# Altium footprint library Chip_kz85.PcbLib: 312 footprints (part 14 of 20)
Each footprint in its own frame and in the unit in brackets; x right, y up, seen from the top. Pads: shape width x height; smd on the part's side, far side on the other; paste and mask are expansions set on the pad; w line width, h text height; cw(c..) or ccw(c..) is an arc to the next point about the centre after c.
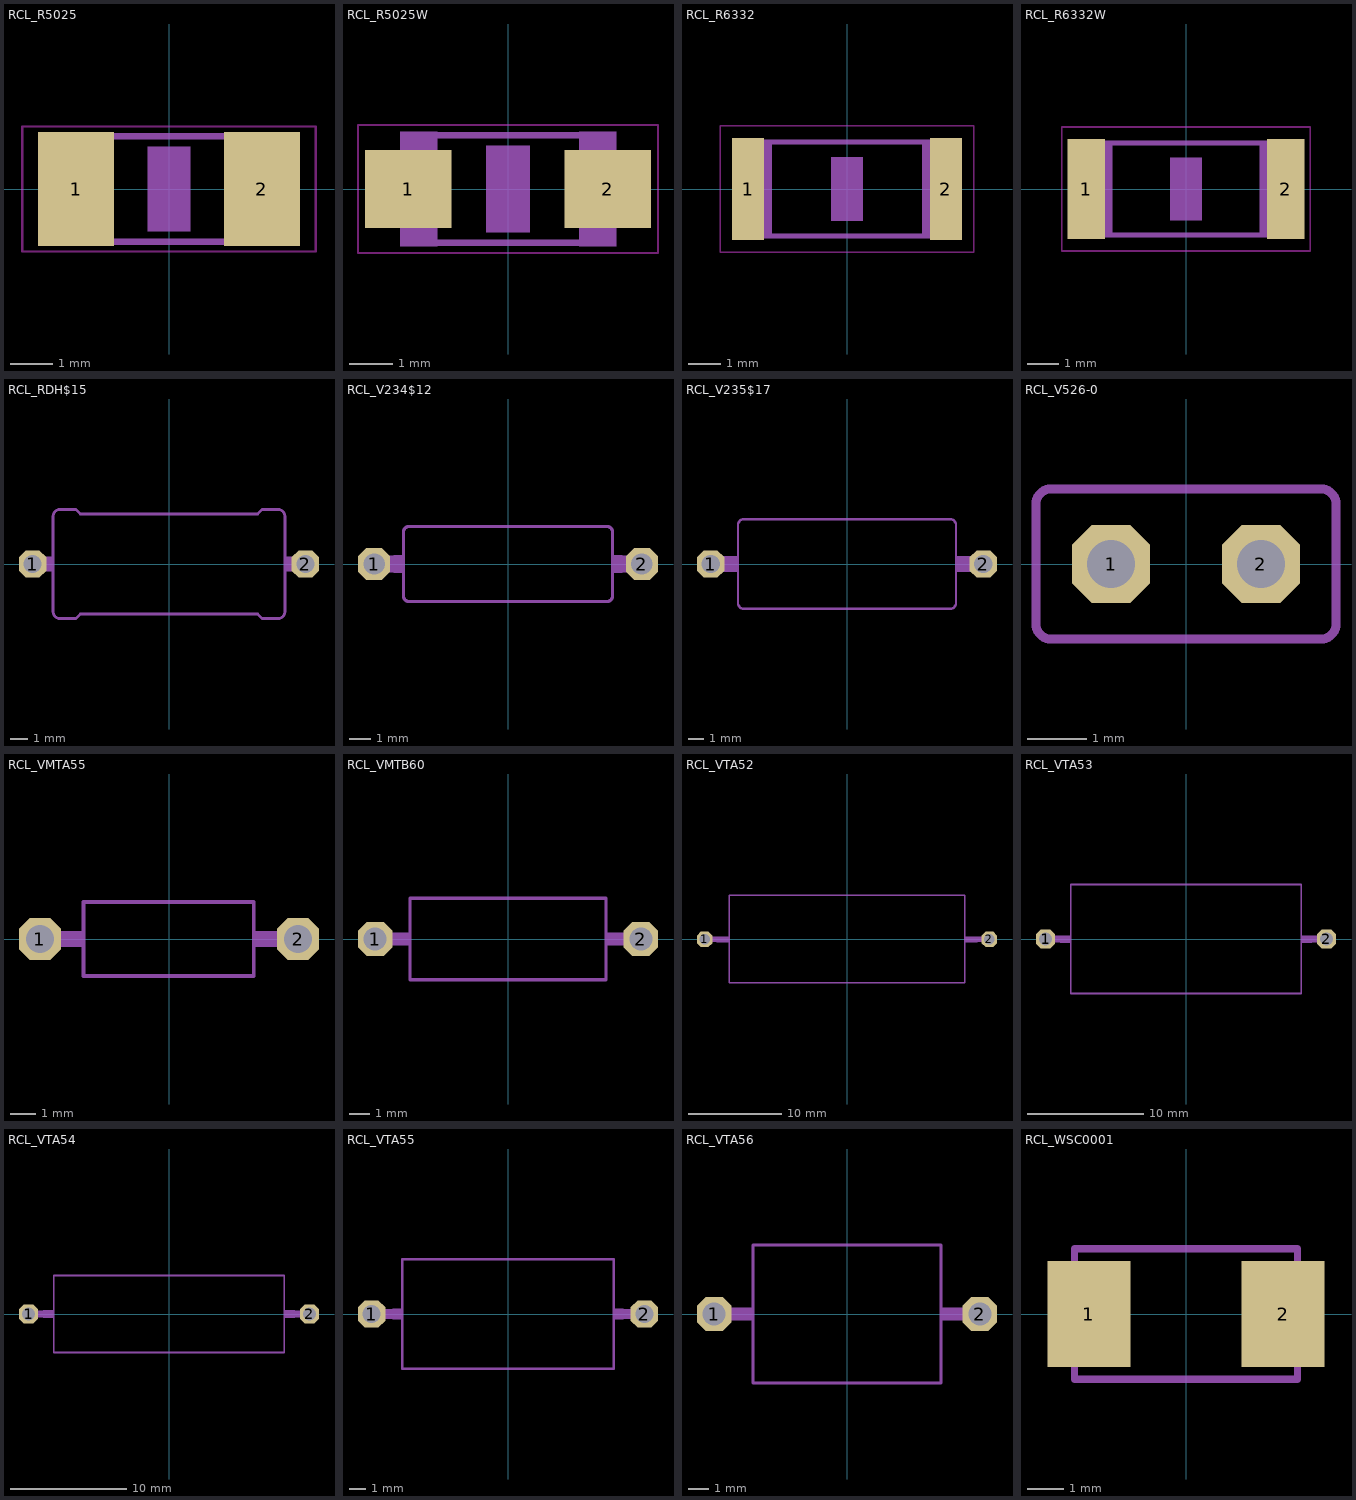
[diagram p13: the footprints below, top view; thin cyan lines are the x and y axes]

## RCL_R5025 [mil]
pads (2):
  rect 70.87x106.3 smd: 1(-86.61,0) 2(86.61,0)
Top Layer keep-out:
  lines w2: -136.73,-58.39 136.73,-58.39 136.73,58.39 -136.73,58.39 -136.73,-58.39
Mechanical 3:
  region: -98,-52 -98,52.33 -64.54,52.33 -64.54,-52
  region: 65,-52 65,52.33 98.46,52.33 98.46,-52
  lines w6: -65.43,49.02 65.43,49.02 ; -64.45,-49.02 66.42,-49.02
Mechanical 11:
  region: -19.69,-39.37 -19.69,39.37 19.69,39.37 19.69,-39.37

## RCL_R5025W [mm]
pads (2):
  rect 2x1.8 smd: 1(-2.311,0) 2(2.311,0)
Top Layer keep-out:
  lines w0.051: -3.473,-1.483 3.473,-1.483 3.473,1.483 -3.473,1.483 -3.473,-1.483
Mechanical 3:
  region: -2.489,-1.321 -2.489,1.329 -1.639,1.329 -1.639,-1.321
  region: 1.651,-1.321 1.651,1.329 2.501,1.329 2.501,-1.321
  lines w0.152: -1.662,1.245 1.662,1.245 ; -1.637,-1.245 1.687,-1.245
Mechanical 11:
  region: -0.5,-1 -0.5,1 0.5,1 0.5,-1

## RCL_R6332 [mm]
pads (2):
  rect 1x3.2 smd: 1(-3.1,0) 2(3.1,0)
Top Layer keep-out:
  lines w0.051: -3.973,-1.983 3.973,-1.983 3.973,1.983 -3.973,1.983 -3.973,-1.983
Mechanical 3:
  region: -3.2,-1.549 -3.2,1.551 -2.351,1.551 -2.351,-1.549
  region: 2.362,-1.549 2.362,1.551 3.212,1.551 3.212,-1.549
  lines w0.152: -2.362,-1.473 2.387,-1.473 ; -2.362,1.473 2.387,1.473
Mechanical 11:
  region: -0.5,-1 -0.5,1 0.5,1 0.5,-1

## RCL_R6332W [mil]
pads (2):
  rect 47.24x125.98 smd: 1(-125.83,0) 2(125.83,0)
Top Layer keep-out:
  lines w2: -156.42,-78.07 156.42,-78.07 156.42,78.07 -156.42,78.07 -156.42,-78.07
Mechanical 3:
  region: -126,-61 -126,61.05 -92.54,61.05 -92.54,-61
  region: 93,-61 93,61.05 126.46,61.05 126.46,-61
  lines w6: -92.99,-57.99 93.98,-57.99 ; -92.99,57.99 93.98,57.99
Mechanical 11:
  region: -19.69,-39.37 -19.69,39.37 19.69,39.37 19.69,-39.37

## RCL_RDH$15 [mil]
pads (2):
  oct 60x60 / inner round 55.43 / far side oct 60x60 hole 40: 1(-300,0) 2(300,0)
Mechanical 3:
  region: -266,-16 -266,16 -254,16 -254,-16
  region: 254,-16 254,16 266,16 266,-16
  lines w6: -255,-40 -255,40 ; 255,-40 255,40
  lines w32: -300,0 -270,0 ; 270,0 300,0
  text "RDH" at 180,-68 h77.5
Mechanical 7:
  lines w6: -255,-40 -255,-105 ccw(c-240,-105) -240,-120 -205,-120 -195,-110 195,-110 205,-120 240,-120 ccw(c240,-105) 255,-105 255,-40 ; -255,40 -255,105 cw(c-240,105) -240,120 -205,120 -195,110 195,110 205,120 240,120 cw(c240,105) 255,105 255,40

## RCL_V234$12 [mil]
pads (2):
  oct 60x60 / inner round 55.43 / far side oct 60x60 hole 40: 1(-250,0) 2(250,0)
Mechanical 3:
  lines w32: -250,0 -215,0 ; 215,0 250,0
Mechanical 7:
  region: 195,-16 195,16 213,16 213,-16
  region: -213,-16 -213,16 -195,16 -195,-16
  lines w6: -195,-60 ccw(c-185,-60) -185,-70 185,-70 ccw(c185,-60) 195,-60 195,60 ccw(c185,60) 185,70 -185,70 ccw(c-185,60) -195,60 -195,-60

## RCL_V235$17 [mil]
pads (2):
  oct 70.5x70.5 / inner round 65.13 / far side oct 70.5x70.5 hole 47: 1(-350,0) 2(350,0)
Mechanical 3:
  lines w40: -350,0 -310,0 ; 310,0 350,0
Mechanical 7:
  region: 280,-20 280,20 305,20 305,-20
  region: -305,-20 -305,20 -280,20 -280,-20
  lines w6: -280,-100 ccw(c-265,-100) -265,-115 265,-115 ccw(c265,-100) 280,-100 280,100 ccw(c265,100) 265,115 -265,115 ccw(c-265,100) -280,100 -280,-100

## RCL_V526-0 [mil]
pads (2):
  oct 52x52 / inner round 48.04 / far side oct 52x52 hole 32: 1(-50,0) 2(50,0)
Mechanical 7:
  lines w6: -100,-40 ccw(c-90,-40) -90,-50 90,-50 ccw(c90,-40) 100,-40 100,40 ccw(c90,40) 90,50 -90,50 ccw(c-90,40) -100,40 -100,-40

## RCL_VMTA55 [mil]
pads (2):
  oct 64.97x64.97 / inner round 60.02 / far side oct 64.97x64.97 hole 43.31: 1(-200,0) 2(200,0)
Mechanical 3:
  lines w24: -200,0 -167.72,0 ; 166.73,0 200,0
Mechanical 7:
  region: -167.72,-12 -167.72,12 -130.22,12 -130.22,-12
  region: 129.23,-12 129.23,12 166.73,12 166.73,-12
  lines w6: -132.38,-57.09 -132.38,57.09 131.4,57.09 131.4,-57.09 -132.38,-57.09

## RCL_VMTB60 [mil]
pads (2):
  oct 64.97x64.97 / inner round 60.02 / far side oct 64.97x64.97 hole 43.31: 1(-250,0) 2(250,0)
Mechanical 3:
  lines w24: -250,0 -219.88,0 ; 219.88,0 250,0
Mechanical 7:
  region: -219.88,-12 -219.88,12 -182.38,12 -182.38,-12
  region: 182.38,-12 182.38,12 219.88,12 219.88,-12
  lines w6: -184.55,-76.77 -184.55,76.77 184.55,76.77 184.55,-76.77 -184.55,-76.77

## RCL_VTA52 [mil]
pads (2):
  oct 64.97x64.97 / inner round 60.02 / far side oct 64.97x64.97 hole 43.31: 1(-600,0) 2(600,0)
Mechanical 3:
  lines w24: -600,0 -550,0 ; 550,0 600,0
Mechanical 7:
  region: -550,-12 -550,12 -494.78,12 -494.78,-12
  region: 494.78,-12 494.78,12 550,12 550,-12
  lines w6: -496.95,-183.07 -496.95,186.02 496.95,186.02 496.95,-183.07 -496.95,-183.07

## RCL_VTA53 [mil]
pads (2):
  oct 64.97x64.97 / inner round 60.02 / far side oct 64.97x64.97 hole 43.31: 1(-475,0) 2(475,0)
Mechanical 3:
  lines w24: -475,0 -425,0 ; 425,0 475,0
Mechanical 7:
  region: -425,-12 -425,12 -387.5,12 -387.5,-12
  region: 387.5,-12 387.5,12 425,12 425,-12
  lines w6: -389.67,-184.06 -389.67,185.04 389.67,185.04 389.67,-184.06 -389.67,-184.06

## RCL_VTA54 [mil]
pads (2):
  oct 64.97x64.97 / inner round 60.02 / far side oct 64.97x64.97 hole 43.31: 1(-475,0) 2(475,0)
Mechanical 3:
  lines w24: -475,0 -425,0 ; 425,0 475,0
Mechanical 7:
  region: -425,-12 -425,12 -387.5,12 -387.5,-12
  region: 387.5,-12 387.5,12 425,12 425,-12
  lines w6: -389.67,-129.92 -389.67,129.92 389.67,129.92 389.67,-129.92 -389.67,-129.92

## RCL_VTA55 [mil]
pads (2):
  oct 64.97x64.97 / inner round 60.02 / far side oct 64.97x64.97 hole 43.31: 1(-325,0) 2(325,0)
Mechanical 3:
  lines w24: -325,0 -275,0 ; 275,0 325,0
Mechanical 7:
  region: -275,-12 -275,12 -250,12 -250,-12
  region: 250,-12 250,12 275,12 275,-12
  lines w6: -252.17,-129.92 -252.17,129.92 252.17,129.92 252.17,-129.92 -252.17,-129.92

## RCL_VTA56 [mil]
pads (2):
  oct 64.97x64.97 / inner round 60.02 / far side oct 64.97x64.97 hole 43.31: 1(-250,0) 2(250,0)
Mechanical 3:
  lines w24: -250,0 -200,0 ; 200,0 250,0
Mechanical 7:
  region: -200,-12 -200,12 -175,12 -175,-12
  region: 175,-12 175,12 200,12 200,-12
  lines w6: -177.17,-129.92 -177.17,129.92 177.17,129.92 177.17,-129.92 -177.17,-129.92

## RCL_WSC0001 [mm]
pads (2):
  rect 2.29x2.92 smd: 1(-2.675,0) 2(2.675,0)
Mechanical 3:
  lines w0.203: -3.075,-1.8 -3.075,1.8 ; 3.075,-1.8 3.075,1.8
Mechanical 7:
  lines w0.203: -3.075,-1.606 -3.075,-1.8 3.075,-1.8 3.075,-1.606 ; -3.075,1.606 -3.075,1.8 3.075,1.8 3.075,1.606